# Altium schematic symbol library 691 242 510 0xx.SchLib: 7 symbols
Pins are listed as number, name and electrical type; pins without a type are passive.

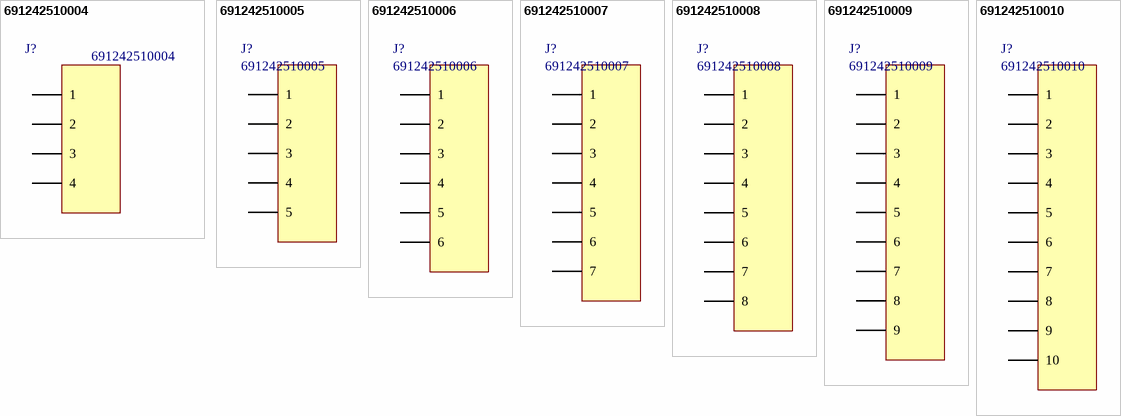
[diagram p0: symbols 691242510004 to 691242510010]

## 691242510004
designator J?
Horizontal Cable Entry with Rising Cage Clamp, Serie 2425 - 5.08 mm; Manufacturer: Wurth Elektronik; ComponentLink1 Description: Manufacturer; ComponentLink2 Description: Datasheet; NoPins: 4; ComponentLink1 URL: http://www.we-online.com; ComponentLink2 URL: http://katalog.we-online.de/em/datasheet/6912425100xx.pdf; Created By: Baojun Chen; Created Date: 6-Aug-15; PartNo: 691242510004; Value: 691242510004
footprint 691242510004 (Serie 2425 - 5.08 mm _ 4 pins)
pins: 1, 2, 3, 4

## 691242510005
designator J?
Horizontal Cable Entry with Rising Cage Clamp, Serie 2425 - 5.08 mm; Manufacturer: Wurth Elektronik; ComponentLink1 Description: Manufacturer; ComponentLink2 Description: Datasheet; NoPins: 5; ComponentLink1 URL: http://www.we-online.com; ComponentLink2 URL: http://katalog.we-online.de/em/datasheet/6912425100xx.pdf; Created By: Baojun Chen; Created Date: 6-Aug-15; PartNo: 691242510005; Value: 691242510005
footprint 691242510005 (Serie 2425 - 5.08 mm _ 5 pins)
pins: 1, 2, 3, 4, 5

## 691242510006
designator J?
Horizontal Cable Entry with Rising Cage Clamp, Serie 2425 - 5.08 mm; Manufacturer: Wurth Elektronik; ComponentLink1 Description: Manufacturer; ComponentLink2 Description: Datasheet; NoPins: 6; ComponentLink1 URL: http://www.we-online.com; ComponentLink2 URL: http://katalog.we-online.de/em/datasheet/6912425100xx.pdf; Created By: Baojun Chen; Created Date: 6-Aug-15; PartNo: 691242510006; Value: 691242510006
footprint 691242510006 (Serie 2425 - 5.08 mm _ 6 pins)
pins: 1, 2, 3, 4, 5, 6

## 691242510007
designator J?
Horizontal Cable Entry with Rising Cage Clamp, Serie 2425 - 5.08 mm; Manufacturer: Wurth Elektronik; ComponentLink1 Description: Manufacturer; ComponentLink2 Description: Datasheet; NoPins: 7; ComponentLink1 URL: http://www.we-online.com; ComponentLink2 URL: http://katalog.we-online.de/em/datasheet/6912425100xx.pdf; Created By: Baojun Chen; Created Date: 6-Aug-15; PartNo: 691242510007; Value: 691242510007
footprint 691242510007 (Serie 2425 - 5.08 mm _ 7 pins)
pins: 1, 2, 3, 4, 5, 6, 7

## 691242510008
designator J?
Horizontal Cable Entry with Rising Cage Clamp, Serie 2425 - 5.08 mm; Manufacturer: Wurth Elektronik; ComponentLink1 Description: Manufacturer; ComponentLink2 Description: Datasheet; NoPins: 8; ComponentLink1 URL: http://www.we-online.com; ComponentLink2 URL: http://katalog.we-online.de/em/datasheet/6912425100xx.pdf; Created By: Baojun Chen; Created Date: 6-Aug-15; PartNo: 691242510008; Value: 691242510008
footprint 691242510008 (Serie 2425 - 5.08 mm _ 8 pins)
pins: 1, 2, 3, 4, 5, 6, 7, 8

## 691242510009
designator J?
Horizontal Cable Entry with Rising Cage Clamp, Serie 2425 - 5.08 mm; Manufacturer: Wurth Elektronik; ComponentLink1 Description: Manufacturer; ComponentLink2 Description: Datasheet; NoPins: 9; ComponentLink1 URL: http://www.we-online.com; ComponentLink2 URL: http://katalog.we-online.de/em/datasheet/6912425100xx.pdf; Created By: Baojun Chen; Created Date: 6-Aug-15; PartNo: 691242510009; Value: 691242510009
footprint 691242510009 (Serie 2425 - 5.08 mm _ 9 pins)
pins: 1, 2, 3, 4, 5, 6, 7, 8, 9

## 691242510010
designator J?
Horizontal Cable Entry with Rising Cage Clamp, Serie 2425 - 5.08 mm; Manufacturer: Wurth Elektronik; ComponentLink1 Description: Manufacturer; ComponentLink2 Description: Datasheet; NoPins: 10; ComponentLink1 URL: http://www.we-online.com; ComponentLink2 URL: http://katalog.we-online.de/em/datasheet/6912425100xx.pdf; Created By: Baojun Chen; Created Date: 6-Aug-15; PartNo: 691242510010; Value: 691242510010
footprint 691242510010 (Serie 2425 - 5.08 mm _ 10 pins)
pins: 1, 2, 3, 4, 5, 6, 7, 8, 9, 10